# EAGLE library part AN7134NR (library Audio-Power-amlifier V.2.0)
Dual 7,5W Audio Power Ampliefier
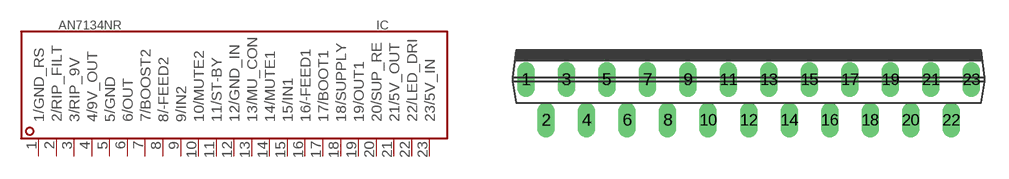
[diagram p191: symbol with the pads of HZIP023-P-FP-1,27; footprint HZIP023-P-FP-1,27]

Designator prefix IC

## AN7134NR  [HZIP023-P-FP-1,27]
1  1/GND_RS  pwr
2  2/RIP_FILT  in
3  3/RIP_9V  in
4  4/9V_OUT  out
5  5/GND  out
6  6/OUT  out
7  7/BOOST2  out
8  8/-FEED2  in
9  9/IN2  in
10  10/MUTE2  out
11  11/ST-BY  in
12  12/GND_IN  pwr
13  13/MU_CON  in
14  14/MUTE1  out
15  15/IN1  in
16  16/-FEED1  in
17  17/BOOT1  in
18  18/SUPPLY  pwr
19  19/OUT1  out
20  20/SUP_RE  pwr
21  21/5V_OUT  out
22  22/LED_DRI  out
23  23/5V_IN  in

## Footprint HZIP023-P-FP-1,27 (pad centres in mm)
23-Lead ZSIL Plastic package with FIN
drill 0.6 long: 1 -13.97,0; 2 -12.7,-2.54; 3 -11.43,0; 4 -10.16,-2.54; 5 -8.89,0; 6 -7.62,-2.54; 7 -6.35,0; 8 -5.08,-2.54; 9 -3.81,0; 10 -2.54,-2.54; 11 -1.27,0; 12 0,-2.54; 13 1.27,0; 14 2.54,-2.54; 15 3.81,0; 16 5.08,-2.54; 17 6.35,0; 18 7.62,-2.54; 19 8.89,0; 20 10.16,-2.54; 21 11.43,0; 22 12.7,-2.54; 23 13.97,0